# Altium schematic symbol library H_Bridge.SchLib: 1 symbol
Pins are listed as number, name and electrical type; pins without a type are passive.

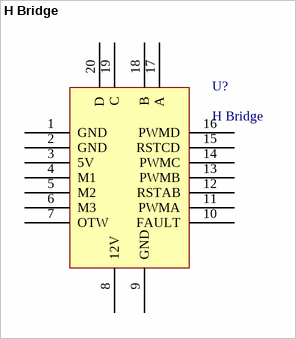
[diagram p0: symbol H Bridge]

## H Bridge
designator U?
pins: 1 GND, 2 GND, 3 5V, 4 M1, 5 M2, 6 M3, 7 OTW, 8 12V, 9 GND, 10 FAULT, 11 PWMA, 12 RSTAB, 13 PWMB, 14 PWMC, 15 RSTCD, 16 PWMD, 17 A, 18 B, 19 C, 20 D